# EAGLE library part ADG704 (library MUX)
The ADG704 is a CMOS analog multiplexer, comprising four single channels. This multiplexer is designed on an advanced submicron process that provides low power dissipation yet gives high switching speed, low on resistance, low leakage currents and high bandwidths. The on resistance profile is very flat over the full analog signal range. This ensures excellent linearity and low distortion when switching audio signals. Fast switching speed also makes the part suitable for video signal switching. The ADG704 can operate from a single supply range of +1.8 V to +5.5 V, making it ideal for use in battery powered instruments and with the new generation of DACs and ADCs from Analog Devices. The ADG704 switches one of four inputs to a common output, D, as determined by the 3-bit binary address lines, A0, A1 and EN. A Logic “0” on the EN pin disables the device. Each switch of the ADG704 conducts equally well in both directions when ON. The ADG704 exhibits break-before-make switching action. The ADG704 is available in 10-lead mSOIC package
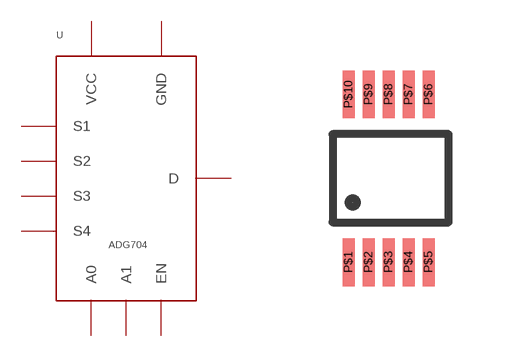
[diagram p0: symbol with the pads of USOIC8; footprint USOIC8]

Designator prefix U

## ADG704ADG704BRMZ  [USOIC8]
P$1  A0
P$2  S1
P$3  GND  pwr
P$4  S3
P$5  EN
P$6  VCC  pwr
P$7  S4
P$8  D
P$9  S2
P$10  A1

## Footprint USOIC8 (pad centres in mm)
smd 0.3 x 1.2: P$1 0,0; P$2 0.5,0; P$3 1,0; P$4 1.5,0; P$5 2,0; P$6 2,4.2; P$7 1.5,4.2; P$8 1,4.2; P$9 0.5,4.2; P$10 0,4.2